# Altium schematic symbol library ConnectorAMP.SchLib: 2 symbols
Pins are listed as number, name and electrical type; pins without a type are passive.

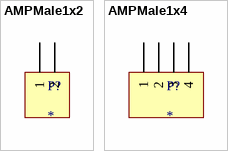
[diagram p0: symbols AMPMale1x2 to AMPMale1x4]

## AMPMale1x2
designator P?
Connector Polarized AMP 2.54mm; Digi-key Part Number: A19423-ND
footprint AMPMALE1x2
pins: 1, 2

## AMPMale1x4
designator P?
Connector Polarized AMP 2.54mm; Digi-key Part Number: A19431-ND
footprint AMPMale1x4
pins: 1, 2, 3, 4